# EAGLE library part 74HC32 (library Logic)
The 74HCT32 is a quad 2-input OR gate. Inputs include clamp diodes. This enables the use of current limiting resistors to interface inputs to voltages in excess of VCC.
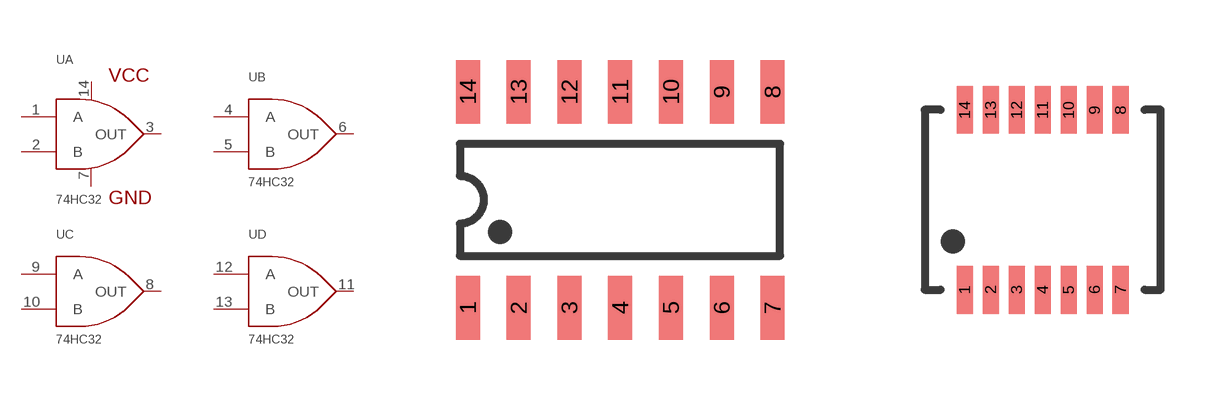
[diagram p2: symbol with the pads of SOIC14; footprints SOIC14, TSSOP-14]

Designator prefix U; gates A=OR_POWER B=OR C=OR D=OR

## 74HC32-SOIC_14  [SOIC14]
1  A:A
2  A:B
3  A:OUT
4  B:A
5  B:B
6  B:OUT
7  A:GND  pwr
8  C:OUT
9  C:A
10  C:B
11  D:OUT
12  D:A
13  D:B
14  A:VCC  pwr

## 74HC32-TSSOP-14  [TSSOP-14]
Pads as for SOIC14

## Footprint SOIC14 (pad centres in mm)
smd 0.6 x 1.6: 1 0,0; 2 1.27,0; 3 2.54,0; 4 3.81,0; 5 5.08,0; 6 6.35,0; 7 7.62,0; 8 7.62,5.4; 9 6.35,5.4; 10 5.08,5.4; 11 3.81,5.4; 12 2.54,5.4; 13 1.27,5.4; 14 0,5.4

## Footprint TSSOP-14 (pad centres in mm)
smd 0.4 x 1.2: 1 0,0; 2 0.65,0; 3 1.3,0; 4 1.95,0; 5 2.6,0; 6 3.25,0; 7 3.9,0; 8 3.9,4.5; 9 3.25,4.5; 10 2.6,4.5; 11 1.95,4.5; 12 1.3,4.5; 13 0.65,4.5; 14 0,4.5